# Altium footprint library C1500.PcbLib: 1 footprints
Each footprint in its own frame and in the unit in brackets; x right, y up, seen from the top. Pads: shape width x height; smd on the part's side, far side on the other; paste and mask are expansions set on the pad; w line width, h text height; cw(c..) or ccw(c..) is an arc to the next point about the centre after c.
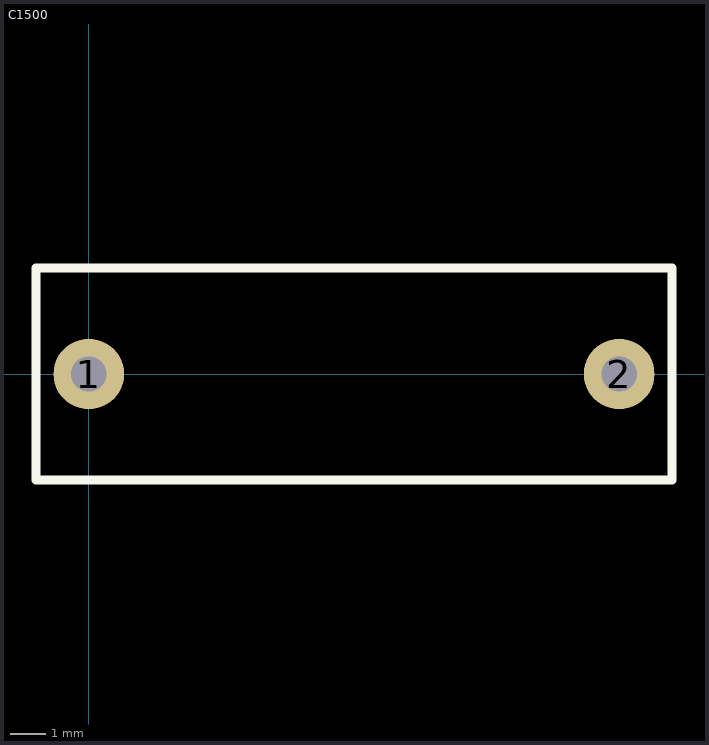
[diagram p0: the footprint, top view; thin cyan lines are the x and y axes]

## C1500 [mm]
height 1.12
pads (2):
  round 2 hole 1: 1(0,0) 2(15,0)
Top Overlay:
  lines w0.254: -1.5,-3 16.5,-3 16.5,3 -1.5,3 -1.5,-3
3D body: height 1.5, standoff -2.5, extent -0.397,-0.399 0.4,0.399
3D body: height 1.5, standoff -2.5, extent 14.603,-0.399 15.4,0.399
3D body: height 13, standoff 0.5, extent -1.5,-3 16.5,3